# EAGLE library part MEGA8L-DEV (library Yogi-MEGA8L)
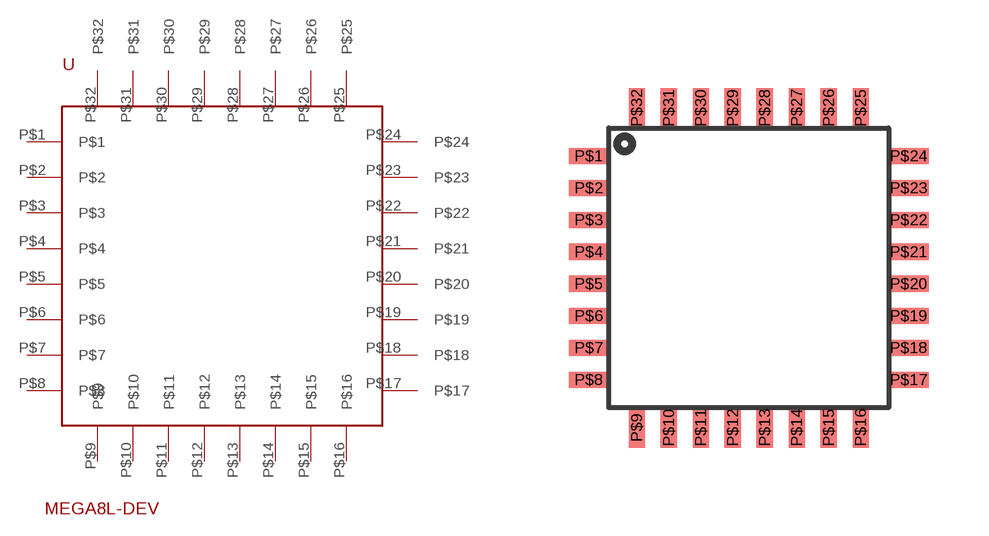
[diagram p0: symbol with the pads of TQFP-MEGA8L; footprint TQFP-MEGA8L]

Designator prefix -

## MEGA8L-DEV  [TQFP-MEGA8L]
P$1  P$1
P$2  P$2
P$3  P$3
P$4  P$4
P$5  P$5
P$6  P$6
P$7  P$7
P$8  P$8
P$9  P$9
P$10  P$10
P$11  P$11
P$12  P$12
P$13  P$13
P$14  P$14
P$15  P$15
P$16  P$16
P$17  P$17
P$18  P$18
P$19  P$19
P$20  P$20
P$21  P$21
P$22  P$22
P$23  P$23
P$24  P$24
P$25  P$25
P$26  P$26
P$27  P$27
P$28  P$28
P$29  P$29
P$30  P$30
P$31  P$31
P$32  P$32

## Footprint TQFP-MEGA8L (pad centres in mm)
smd 1 x 0.4: P$1 33.9,-2.9; P$2 33.9,-3.7; P$3 33.9,-4.5; P$4 33.9,-5.3; P$5 33.9,-6.1; P$6 33.9,-6.9; P$7 33.9,-7.7; P$8 33.9,-8.5; P$17 41.9,-8.5; P$18 41.9,-7.7; P$19 41.9,-6.9; P$20 41.9,-6.1; P$21 41.9,-5.3; P$22 41.9,-4.5; P$23 41.9,-3.7; P$24 41.9,-2.9
smd 0.4 x 1: P$9 35.1,-9.7; P$10 35.9,-9.7; P$11 36.7,-9.7; P$12 37.5,-9.7; P$13 38.3,-9.7; P$14 39.1,-9.7; P$15 39.9,-9.7; P$16 40.7,-9.7; P$25 40.7,-1.7; P$26 39.9,-1.7; P$27 39.1,-1.7; P$28 38.3,-1.7; P$29 37.5,-1.7; P$30 36.7,-1.7; P$31 35.9,-1.7; P$32 35.1,-1.7